# Altium schematic symbol library Shida_Design2.SchLib: 3 symbols
Pins are listed as number, name and electrical type; pins without a type are passive.

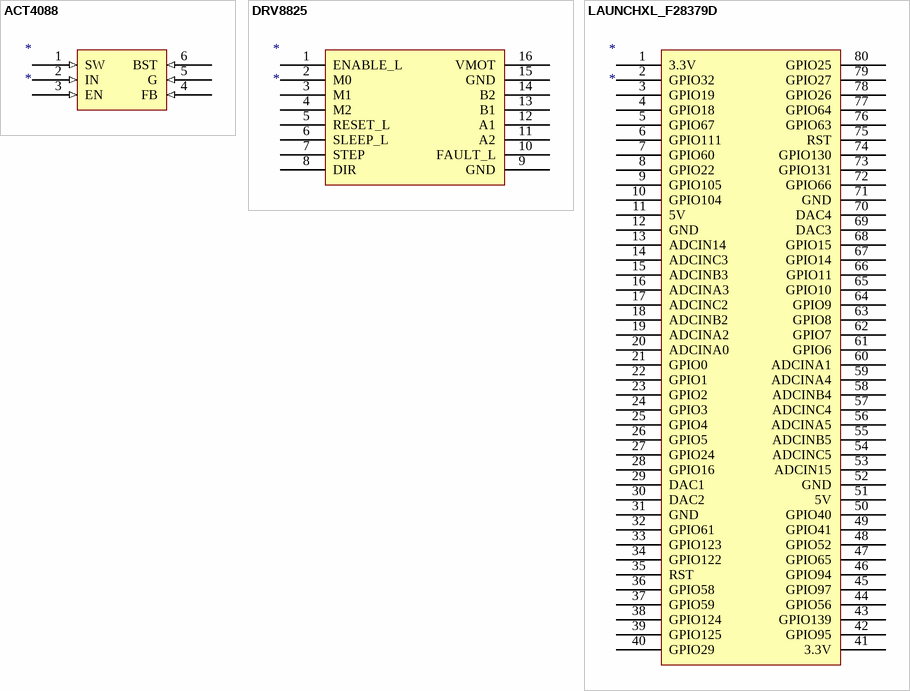
[diagram p0: symbols ACT4088 to LAUNCHXL_F28379D]

## ACT4088
designator *
footprint ACT4088_FP (SOIC, 6-Leads, Body 3.00x1.60mm, Pitch 1.27mm, IPC Medium Density)
pins: 1 SW (in), 2 IN (in), 3 EN (in), 4 FB (in), 5 G (in), 6 BST (in)

## DRV8825
designator *
footprint DRV8825_FP
pins: 1 ENABLE_L, 2 M0, 3 M1, 4 M2, 5 RESET_L, 6 SLEEP_L, 7 STEP, 8 DIR, 9 GND, 10 FAULT_L, 11 A2, 12 A1, 13 B1, 14 B2, 15 GND, 16 VMOT

## LAUNCHXL_F28379D
designator *
footprint LAUNCH_PAD; pin to pad 11>21 12>22 13>23 14>24 15>25 16>26 17>27 18>28 19>29 20>30 21>40 22>39 23>38 24>37 25>36 26>35 27>34 28>33 29>32 30>31 31>20 32>19 33>18 34>17 35>16 36>15 37>14 38>13 39>12 40>11 51>61 52>62 53>63 54>64 55>65 56>66 57>67 58>68 59>69 60>70 61>80 62>79 63>78 64>77 65>76 66>75 67>74 68>73 69>72 70>71 71>60 72>59 73>58 74>57 75>56 76>55 77>54 78>53 79>52 80>51
pins: 1 3.3V, 2 GPIO32, 3 GPIO19, 4 GPIO18, 5 GPIO67, 6 GPIO111, 7 GPIO60, 8 GPIO22, 9 GPIO105, 10 GPIO104, 11 5V, 12 GND, 13 ADCIN14, 14 ADCINC3, 15 ADCINB3, 16 ADCINA3, 17 ADCINC2, 18 ADCINB2, 19 ADCINA2, 20 ADCINA0, 21 GPIO0, 22 GPIO1, 23 GPIO2, 24 GPIO3, 25 GPIO4, 26 GPIO5, 27 GPIO24, 28 GPIO16, 29 DAC1, 30 DAC2, 31 GND, 32 GPIO61, 33 GPIO123, 34 GPIO122, 35 RST, 36 GPIO58, 37 GPIO59, 38 GPIO124, 39 GPIO125, 40 GPIO29, 41 3.3V, 42 GPIO95, 43 GPIO139, 44 GPIO56, 45 GPIO97, 46 GPIO94, 47 GPIO65, 48 GPIO52, 49 GPIO41, 50 GPIO40, 51 5V, 52 GND, 53 ADCIN15, 54 ADCINC5, 55 ADCINB5, 56 ADCINA5, 57 ADCINC4, 58 ADCINB4, 59 ADCINA4, 60 ADCINA1, 61 GPIO6, 62 GPIO7, 63 GPIO8, 64 GPIO9, 65 GPIO10, 66 GPIO11, 67 GPIO14, 68 GPIO15, 69 DAC3, 70 DAC4, 71 GND, 72 GPIO66, 73 GPIO131, 74 GPIO130, 75 RST, 76 GPIO63, 77 GPIO64, 78 GPIO26, 79 GPIO27, 80 GPIO25